# Altium schematic symbol library jlcpcb_2025_04_resistors_extended_1812.schlib: 557 symbols (part 3 of 9)
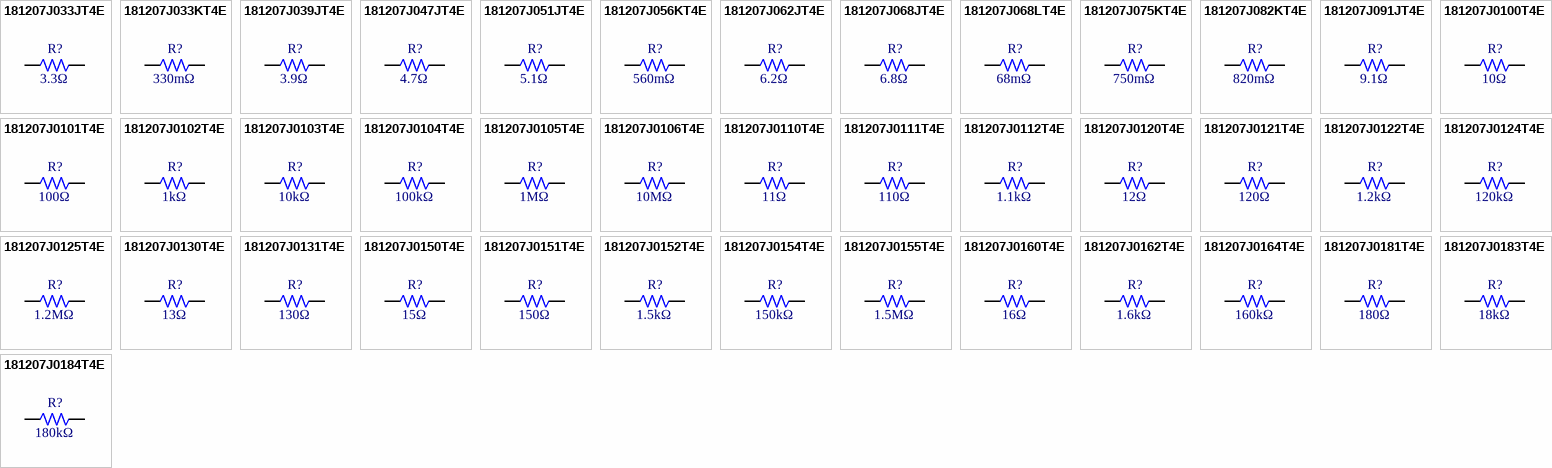
[diagram p15: symbols 181207J033JT4E to 181207J0184T4E]

## 181207J056KT4E
designator R?  Resistance: 560mΩ  (hidden comment: *)
Resistor, 560mΩ, ±5%, 750mW, 200V, ±800ppm/℃, -55℃~+155℃, SMD 1812; Manufacturer: Uniroyal; Manufacturer Part Number: 181207J056KT4E; Supplier 1: LCSC; Supplier Part Number 1: C421980; JLCPCB Part Number: C421980; Power Rating: 750mW; Category: Resistors; Package Size: 1812; JLCPCB Basic Part: Yes; Tolerance: ±5%; Voltage Rating: 200V; Temperature Coefficient: ±800ppm/℃; Temperature Rating: -55℃~+155℃; ComponentLink1Description: Datasheet; ComponentLink1URL: https://wmsc.lcsc.com/wmsc/upload/file/pdf/v2/lcsc/2205312016_UNI-ROYAL-Uniroyal-Elec-181207J056KT4E_C421980.pdf; ComponentLink2Description: JLCPCB Part URL; ComponentLink2URL: https://jlcpcb.com/partdetail/C421980
pins: 1, 2
1 alternate drawing of the same symbol

## 181207J062JT4E
designator R?  Resistance: 6.2Ω  (hidden comment: *)
Resistor, 6.2Ω, ±5%, 750mW, 200V, ±200ppm/℃, -55℃~+155℃, SMD 1812; Manufacturer: Uniroyal; Manufacturer Part Number: 181207J062JT4E; Supplier 1: LCSC; Supplier Part Number 1: C621108; JLCPCB Part Number: C621108; Power Rating: 750mW; Category: Resistors; Package Size: 1812; JLCPCB Basic Part: Yes; Tolerance: ±5%; Voltage Rating: 200V; Temperature Coefficient: ±200ppm/℃; Temperature Rating: -55℃~+155℃; ComponentLink1Description: Datasheet; ComponentLink1URL: https://wmsc.lcsc.com/wmsc/upload/file/pdf/v2/lcsc/2206011100_UNI-ROYAL-Uniroyal-Elec-181207J062JT4E_C621108.pdf; ComponentLink2Description: JLCPCB Part URL; ComponentLink2URL: https://jlcpcb.com/partdetail/C621108
pins: 1, 2
1 alternate drawing of the same symbol

## 181207J068JT4E
designator R?  Resistance: 6.8Ω  (hidden comment: *)
Resistor, 6.8Ω, ±5%, 750mW, 200V, ±200ppm/℃, -55℃~+155℃, SMD 1812; Manufacturer: Uniroyal; Manufacturer Part Number: 181207J068JT4E; Supplier 1: LCSC; Supplier Part Number 1: C621109; JLCPCB Part Number: C621109; Power Rating: 750mW; Category: Resistors; Package Size: 1812; JLCPCB Basic Part: Yes; Tolerance: ±5%; Voltage Rating: 200V; Temperature Coefficient: ±200ppm/℃; Temperature Rating: -55℃~+155℃; ComponentLink1Description: Datasheet; ComponentLink1URL: https://wmsc.lcsc.com/wmsc/upload/file/pdf/v2/lcsc/2206011100_UNI-ROYAL-Uniroyal-Elec-181207J068JT4E_C621109.pdf; ComponentLink2Description: JLCPCB Part URL; ComponentLink2URL: https://jlcpcb.com/partdetail/C621109
pins: 1, 2
1 alternate drawing of the same symbol

## 181207J068LT4E
designator R?  Resistance: 68mΩ  (hidden comment: *)
Resistor, 68mΩ, ±5%, 750mW, 200V, -55℃~+155℃, SMD 1812; Manufacturer: Uniroyal; Manufacturer Part Number: 181207J068LT4E; Supplier 1: LCSC; Supplier Part Number 1: C921024; JLCPCB Part Number: C921024; Power Rating: 750mW; Category: Resistors; Package Size: 1812; JLCPCB Basic Part: Yes; Tolerance: ±5%; Voltage Rating: 200V; Temperature Rating: -55℃~+155℃; ComponentLink1Description: Datasheet; ComponentLink1URL: https://wmsc.lcsc.com/wmsc/upload/file/pdf/v2/lcsc/2304140030_UNI-ROYAL-Uniroyal-Elec-181207J068LT4E_C921024.pdf; ComponentLink2Description: JLCPCB Part URL; ComponentLink2URL: https://jlcpcb.com/partdetail/C921024
pins: 1, 2
1 alternate drawing of the same symbol

## 181207J075KT4E
designator R?  Resistance: 750mΩ  (hidden comment: *)
Resistor, 750mΩ, ±5%, 750mW, 200V, ±800ppm/℃, -55℃~+155℃, SMD 1812; Manufacturer: Uniroyal; Manufacturer Part Number: 181207J075KT4E; Supplier 1: LCSC; Supplier Part Number 1: C421967; JLCPCB Part Number: C421967; Power Rating: 750mW; Category: Resistors; Package Size: 1812; JLCPCB Basic Part: Yes; Tolerance: ±5%; Voltage Rating: 200V; Temperature Coefficient: ±800ppm/℃; Temperature Rating: -55℃~+155℃; ComponentLink1Description: Datasheet; ComponentLink1URL: https://wmsc.lcsc.com/wmsc/upload/file/pdf/v2/lcsc/2205312016_UNI-ROYAL-Uniroyal-Elec-181207J075KT4E_C421967.pdf; ComponentLink2Description: JLCPCB Part URL; ComponentLink2URL: https://jlcpcb.com/partdetail/C421967
pins: 1, 2
1 alternate drawing of the same symbol

## 181207J082KT4E
designator R?  Resistance: 820mΩ  (hidden comment: *)
Resistor, 820mΩ, ±5%, 750mW, 200V, ±800ppm/℃, -55℃~+155℃, SMD 1812; Manufacturer: Uniroyal; Manufacturer Part Number: 181207J082KT4E; Supplier 1: LCSC; Supplier Part Number 1: C421961; JLCPCB Part Number: C421961; Power Rating: 750mW; Category: Resistors; Package Size: 1812; JLCPCB Basic Part: Yes; Tolerance: ±5%; Voltage Rating: 200V; Temperature Coefficient: ±800ppm/℃; Temperature Rating: -55℃~+155℃; ComponentLink1Description: Datasheet; ComponentLink1URL: https://wmsc.lcsc.com/wmsc/upload/file/pdf/v2/lcsc/2205312016_UNI-ROYAL-Uniroyal-Elec-181207J082KT4E_C421961.pdf; ComponentLink2Description: JLCPCB Part URL; ComponentLink2URL: https://jlcpcb.com/partdetail/C421961
pins: 1, 2
1 alternate drawing of the same symbol

## 181207J091JT4E
designator R?  Resistance: 9.1Ω  (hidden comment: *)
Resistor, 9.1Ω, ±5%, 750mW, 200V, ±200ppm/℃, -55℃~+155℃, SMD 1812; Manufacturer: Uniroyal; Manufacturer Part Number: 181207J091JT4E; Supplier 1: LCSC; Supplier Part Number 1: C421956; JLCPCB Part Number: C421956; Power Rating: 750mW; Category: Resistors; Package Size: 1812; JLCPCB Basic Part: Yes; Tolerance: ±5%; Voltage Rating: 200V; Temperature Coefficient: ±200ppm/℃; Temperature Rating: -55℃~+155℃; ComponentLink1Description: Datasheet; ComponentLink1URL: https://wmsc.lcsc.com/wmsc/upload/file/pdf/v2/lcsc/2205312016_UNI-ROYAL-Uniroyal-Elec-181207J091JT4E_C421956.pdf; ComponentLink2Description: JLCPCB Part URL; ComponentLink2URL: https://jlcpcb.com/partdetail/C421956
pins: 1, 2
1 alternate drawing of the same symbol

## 181207J0100T4E
designator R?  Resistance: 10Ω  (hidden comment: *)
Resistor, 10Ω, ±5%, 750mW, 200V, ±200ppm/℃, -55℃~+155℃, SMD 1812; Manufacturer: Uniroyal; Manufacturer Part Number: 181207J0100T4E; Supplier 1: LCSC; Supplier Part Number 1: C66571; JLCPCB Part Number: C66571; Power Rating: 750mW; Category: Resistors; Package Size: 1812; JLCPCB Basic Part: Yes; Tolerance: ±5%; Voltage Rating: 200V; Temperature Coefficient: ±200ppm/℃; Temperature Rating: -55℃~+155℃; ComponentLink1Description: Datasheet; ComponentLink1URL: https://wmsc.lcsc.com/wmsc/upload/file/pdf/v2/lcsc/2205312345_UNI-ROYAL-Uniroyal-Elec-181207J0100T4E_C66571.pdf; ComponentLink2Description: JLCPCB Part URL; ComponentLink2URL: https://jlcpcb.com/partdetail/C66571
pins: 1, 2
1 alternate drawing of the same symbol

## 181207J0101T4E
designator R?  Resistance: 100Ω  (hidden comment: *)
Resistor, 100Ω, ±5%, 750mW, 200V, ±100ppm/℃, -55℃~+155℃, SMD 1812; Manufacturer: Uniroyal; Manufacturer Part Number: 181207J0101T4E; Supplier 1: LCSC; Supplier Part Number 1: C473514; JLCPCB Part Number: C473514; Power Rating: 750mW; Category: Resistors; Package Size: 1812; JLCPCB Basic Part: Yes; Tolerance: ±5%; Voltage Rating: 200V; Temperature Coefficient: ±100ppm/℃; Temperature Rating: -55℃~+155℃; ComponentLink1Description: Datasheet; ComponentLink1URL: https://wmsc.lcsc.com/wmsc/upload/file/pdf/v2/lcsc/2206011100_UNI-ROYAL-Uniroyal-Elec-181207J0101T4E_C473514.pdf; ComponentLink2Description: JLCPCB Part URL; ComponentLink2URL: https://jlcpcb.com/partdetail/C473514
pins: 1, 2
1 alternate drawing of the same symbol

## 181207J0102T4E
designator R?  Resistance: 1kΩ  (hidden comment: *)
Resistor, 1kΩ, ±5%, 750mW, 200V, ±100ppm/℃, -55℃~+155℃, SMD 1812; Manufacturer: Uniroyal; Manufacturer Part Number: 181207J0102T4E; Supplier 1: LCSC; Supplier Part Number 1: C62361; JLCPCB Part Number: C62361; Power Rating: 750mW; Category: Resistors; Package Size: 1812; JLCPCB Basic Part: Yes; Tolerance: ±5%; Voltage Rating: 200V; Temperature Coefficient: ±100ppm/℃; Temperature Rating: -55℃~+155℃; ComponentLink1Description: Datasheet; ComponentLink1URL: https://wmsc.lcsc.com/wmsc/upload/file/pdf/v2/lcsc/2205312345_UNI-ROYAL-Uniroyal-Elec-181207J0102T4E_C62361.pdf; ComponentLink2Description: JLCPCB Part URL; ComponentLink2URL: https://jlcpcb.com/partdetail/C62361
pins: 1, 2
1 alternate drawing of the same symbol

## 181207J0103T4E
designator R?  Resistance: 10kΩ  (hidden comment: *)
Resistor, 10kΩ, ±5%, 750mW, 200V, ±100ppm/℃, -55℃~+155℃, SMD 1812; Manufacturer: Uniroyal; Manufacturer Part Number: 181207J0103T4E; Supplier 1: LCSC; Supplier Part Number 1: C621076; JLCPCB Part Number: C621076; Power Rating: 750mW; Category: Resistors; Package Size: 1812; JLCPCB Basic Part: Yes; Tolerance: ±5%; Voltage Rating: 200V; Temperature Coefficient: ±100ppm/℃; Temperature Rating: -55℃~+155℃; ComponentLink1Description: Datasheet; ComponentLink1URL: https://wmsc.lcsc.com/wmsc/upload/file/pdf/v2/lcsc/2205311830_UNI-ROYAL-Uniroyal-Elec-181207J0103T4E_C621076.pdf; ComponentLink2Description: JLCPCB Part URL; ComponentLink2URL: https://jlcpcb.com/partdetail/C621076
pins: 1, 2
1 alternate drawing of the same symbol

## 181207J0104T4E
designator R?  Resistance: 100kΩ  (hidden comment: *)
Resistor, 100kΩ, ±5%, 750mW, 200V, ±100ppm/℃, -55℃~+155℃, SMD 1812; Manufacturer: Uniroyal; Manufacturer Part Number: 181207J0104T4E; Supplier 1: LCSC; Supplier Part Number 1: C73169; JLCPCB Part Number: C73169; Power Rating: 750mW; Category: Resistors; Package Size: 1812; JLCPCB Basic Part: Yes; Tolerance: ±5%; Voltage Rating: 200V; Temperature Coefficient: ±100ppm/℃; Temperature Rating: -55℃~+155℃; ComponentLink1Description: Datasheet; ComponentLink1URL: https://wmsc.lcsc.com/wmsc/upload/file/pdf/v2/lcsc/2205312345_UNI-ROYAL-Uniroyal-Elec-181207J0104T4E_C73169.pdf; ComponentLink2Description: JLCPCB Part URL; ComponentLink2URL: https://jlcpcb.com/partdetail/C73169
pins: 1, 2
1 alternate drawing of the same symbol

## 181207J0105T4E
designator R?  Resistance: 1MΩ  (hidden comment: *)
Resistor, 1MΩ, ±5%, 750mW, 200V, ±100ppm/℃, -55℃~+155℃, SMD 1812; Manufacturer: Uniroyal; Manufacturer Part Number: 181207J0105T4E; Supplier 1: LCSC; Supplier Part Number 1: C474263; JLCPCB Part Number: C474263; Power Rating: 750mW; Category: Resistors; Package Size: 1812; JLCPCB Basic Part: Yes; Tolerance: ±5%; Voltage Rating: 200V; Temperature Coefficient: ±100ppm/℃; Temperature Rating: -55℃~+155℃; ComponentLink1Description: Datasheet; ComponentLink1URL: https://wmsc.lcsc.com/wmsc/upload/file/pdf/v2/lcsc/2206011100_UNI-ROYAL-Uniroyal-Elec-181207J0105T4E_C474263.pdf; ComponentLink2Description: JLCPCB Part URL; ComponentLink2URL: https://jlcpcb.com/partdetail/C474263
pins: 1, 2
1 alternate drawing of the same symbol

## 181207J0106T4E
designator R?  Resistance: 10MΩ  (hidden comment: *)
Resistor, 10MΩ, ±5%, 750mW, 200V, ±100ppm/℃, -55℃~+155℃, SMD 1812; Manufacturer: Uniroyal; Manufacturer Part Number: 181207J0106T4E; Supplier 1: LCSC; Supplier Part Number 1: C2765509; JLCPCB Part Number: C2765509; Power Rating: 750mW; Category: Resistors; Package Size: 1812; JLCPCB Basic Part: Yes; Tolerance: ±5%; Voltage Rating: 200V; Temperature Coefficient: ±100ppm/℃; Temperature Rating: -55℃~+155℃; ComponentLink1Description: Datasheet; ComponentLink1URL: https://wmsc.lcsc.com/wmsc/upload/file/pdf/v2/lcsc/2206011045_UNI-ROYAL-Uniroyal-Elec-181207J0106T4E_C2765509.pdf; ComponentLink2Description: JLCPCB Part URL; ComponentLink2URL: https://jlcpcb.com/partdetail/C2765509
pins: 1, 2
1 alternate drawing of the same symbol

## 181207J0110T4E
designator R?  Resistance: 11Ω  (hidden comment: *)
Resistor, 11Ω, ±5%, 750mW, 200V, ±100ppm/℃, -55℃~+155℃, SMD 1812; Manufacturer: Uniroyal; Manufacturer Part Number: 181207J0110T4E; Supplier 1: LCSC; Supplier Part Number 1: C422039; JLCPCB Part Number: C422039; Power Rating: 750mW; Category: Resistors; Package Size: 1812; JLCPCB Basic Part: Yes; Tolerance: ±5%; Voltage Rating: 200V; Temperature Coefficient: ±100ppm/℃; Temperature Rating: -55℃~+155℃; ComponentLink1Description: Datasheet; ComponentLink1URL: https://wmsc.lcsc.com/wmsc/upload/file/pdf/v2/lcsc/2205312016_UNI-ROYAL-Uniroyal-Elec-181207J0110T4E_C422039.pdf; ComponentLink2Description: JLCPCB Part URL; ComponentLink2URL: https://jlcpcb.com/partdetail/C422039
pins: 1, 2
1 alternate drawing of the same symbol

## 181207J0111T4E
designator R?  Resistance: 110Ω  (hidden comment: *)
Resistor, 110Ω, ±5%, 750mW, 200V, ±100ppm/℃, -55℃~+155℃, SMD 1812; Manufacturer: Uniroyal; Manufacturer Part Number: 181207J0111T4E; Supplier 1: LCSC; Supplier Part Number 1: C422038; JLCPCB Part Number: C422038; Power Rating: 750mW; Category: Resistors; Package Size: 1812; JLCPCB Basic Part: Yes; Tolerance: ±5%; Voltage Rating: 200V; Temperature Coefficient: ±100ppm/℃; Temperature Rating: -55℃~+155℃; ComponentLink1Description: Datasheet; ComponentLink1URL: https://wmsc.lcsc.com/wmsc/upload/file/pdf/v2/lcsc/2205312016_UNI-ROYAL-Uniroyal-Elec-181207J0111T4E_C422038.pdf; ComponentLink2Description: JLCPCB Part URL; ComponentLink2URL: https://jlcpcb.com/partdetail/C422038
pins: 1, 2
1 alternate drawing of the same symbol

## 181207J0112T4E
designator R?  Resistance: 1.1kΩ  (hidden comment: *)
Resistor, 1.1kΩ, ±5%, 750mW, 200V, ±100ppm/℃, -55℃~+155℃, SMD 1812; Manufacturer: Uniroyal; Manufacturer Part Number: 181207J0112T4E; Supplier 1: LCSC; Supplier Part Number 1: C422037; JLCPCB Part Number: C422037; Power Rating: 750mW; Category: Resistors; Package Size: 1812; JLCPCB Basic Part: Yes; Tolerance: ±5%; Voltage Rating: 200V; Temperature Coefficient: ±100ppm/℃; Temperature Rating: -55℃~+155℃; ComponentLink1Description: Datasheet; ComponentLink1URL: https://wmsc.lcsc.com/wmsc/upload/file/pdf/v2/lcsc/2205312016_UNI-ROYAL-Uniroyal-Elec-181207J0112T4E_C422037.pdf; ComponentLink2Description: JLCPCB Part URL; ComponentLink2URL: https://jlcpcb.com/partdetail/C422037
pins: 1, 2
1 alternate drawing of the same symbol

## 181207J0120T4E
designator R?  Resistance: 12Ω  (hidden comment: *)
Resistor, 12Ω, ±5%, 750mW, 200V, ±100ppm/℃, -55℃~+155℃, SMD 1812; Manufacturer: Uniroyal; Manufacturer Part Number: 181207J0120T4E; Supplier 1: LCSC; Supplier Part Number 1: C621077; JLCPCB Part Number: C621077; Power Rating: 750mW; Category: Resistors; Package Size: 1812; JLCPCB Basic Part: Yes; Tolerance: ±5%; Voltage Rating: 200V; Temperature Coefficient: ±100ppm/℃; Temperature Rating: -55℃~+155℃; ComponentLink1Description: Datasheet; ComponentLink1URL: https://wmsc.lcsc.com/wmsc/upload/file/pdf/v2/lcsc/2205311830_UNI-ROYAL-Uniroyal-Elec-181207J0120T4E_C621077.pdf; ComponentLink2Description: JLCPCB Part URL; ComponentLink2URL: https://jlcpcb.com/partdetail/C621077
pins: 1, 2
1 alternate drawing of the same symbol

## 181207J0121T4E
designator R?  Resistance: 120Ω  (hidden comment: *)
Resistor, 120Ω, ±5%, 750mW, 200V, ±100ppm/℃, -55℃~+155℃, SMD 1812; Manufacturer: Uniroyal; Manufacturer Part Number: 181207J0121T4E; Supplier 1: LCSC; Supplier Part Number 1: C474086; JLCPCB Part Number: C474086; Power Rating: 750mW; Category: Resistors; Package Size: 1812; JLCPCB Basic Part: Yes; Tolerance: ±5%; Voltage Rating: 200V; Temperature Coefficient: ±100ppm/℃; Temperature Rating: -55℃~+155℃; ComponentLink1Description: Datasheet; ComponentLink1URL: https://wmsc.lcsc.com/wmsc/upload/file/pdf/v2/lcsc/2206011100_UNI-ROYAL-Uniroyal-Elec-181207J0121T4E_C474086.pdf; ComponentLink2Description: JLCPCB Part URL; ComponentLink2URL: https://jlcpcb.com/partdetail/C474086
pins: 1, 2
1 alternate drawing of the same symbol

## 181207J0122T4E
designator R?  Resistance: 1.2kΩ  (hidden comment: *)
Resistor, 1.2kΩ, ±5%, 750mW, 200V, ±100ppm/℃, -55℃~+155℃, SMD 1812; Manufacturer: Uniroyal; Manufacturer Part Number: 181207J0122T4E; Supplier 1: LCSC; Supplier Part Number 1: C422035; JLCPCB Part Number: C422035; Power Rating: 750mW; Category: Resistors; Package Size: 1812; JLCPCB Basic Part: Yes; Tolerance: ±5%; Voltage Rating: 200V; Temperature Coefficient: ±100ppm/℃; Temperature Rating: -55℃~+155℃; ComponentLink1Description: Datasheet; ComponentLink1URL: https://wmsc.lcsc.com/wmsc/upload/file/pdf/v2/lcsc/2205312016_UNI-ROYAL-Uniroyal-Elec-181207J0122T4E_C422035.pdf; ComponentLink2Description: JLCPCB Part URL; ComponentLink2URL: https://jlcpcb.com/partdetail/C422035
pins: 1, 2
1 alternate drawing of the same symbol

## 181207J0124T4E
designator R?  Resistance: 120kΩ  (hidden comment: *)
Resistor, 120kΩ, ±5%, 750mW, 200V, ±100ppm/℃, -55℃~+155℃, SMD 1812; Manufacturer: Uniroyal; Manufacturer Part Number: 181207J0124T4E; Supplier 1: LCSC; Supplier Part Number 1: C422034; JLCPCB Part Number: C422034; Power Rating: 750mW; Category: Resistors; Package Size: 1812; JLCPCB Basic Part: Yes; Tolerance: ±5%; Voltage Rating: 200V; Temperature Coefficient: ±100ppm/℃; Temperature Rating: -55℃~+155℃; ComponentLink1Description: Datasheet; ComponentLink1URL: https://wmsc.lcsc.com/wmsc/upload/file/pdf/v2/lcsc/2205312016_UNI-ROYAL-Uniroyal-Elec-181207J0124T4E_C422034.pdf; ComponentLink2Description: JLCPCB Part URL; ComponentLink2URL: https://jlcpcb.com/partdetail/C422034
pins: 1, 2
1 alternate drawing of the same symbol

## 181207J0125T4E
designator R?  Resistance: 1.2MΩ  (hidden comment: *)
Resistor, 1.2MΩ, ±5%, 750mW, 200V, ±100ppm/℃, -55℃~+155℃, SMD 1812; Manufacturer: Uniroyal; Manufacturer Part Number: 181207J0125T4E; Supplier 1: LCSC; Supplier Part Number 1: C621075; JLCPCB Part Number: C621075; Power Rating: 750mW; Category: Resistors; Package Size: 1812; JLCPCB Basic Part: Yes; Tolerance: ±5%; Voltage Rating: 200V; Temperature Coefficient: ±100ppm/℃; Temperature Rating: -55℃~+155℃; ComponentLink1Description: Datasheet; ComponentLink1URL: https://wmsc.lcsc.com/wmsc/upload/file/pdf/v2/lcsc/2205311830_UNI-ROYAL-Uniroyal-Elec-181207J0125T4E_C621075.pdf; ComponentLink2Description: JLCPCB Part URL; ComponentLink2URL: https://jlcpcb.com/partdetail/C621075
pins: 1, 2
1 alternate drawing of the same symbol

## 181207J0130T4E
designator R?  Resistance: 13Ω  (hidden comment: *)
Resistor, 13Ω, ±5%, 750mW, 200V, ±100ppm/℃, -55℃~+155℃, SMD 1812; Manufacturer: Uniroyal; Manufacturer Part Number: 181207J0130T4E; Supplier 1: LCSC; Supplier Part Number 1: C422032; JLCPCB Part Number: C422032; Power Rating: 750mW; Category: Resistors; Package Size: 1812; JLCPCB Basic Part: Yes; Tolerance: ±5%; Voltage Rating: 200V; Temperature Coefficient: ±100ppm/℃; Temperature Rating: -55℃~+155℃; ComponentLink1Description: Datasheet; ComponentLink1URL: https://wmsc.lcsc.com/wmsc/upload/file/pdf/v2/lcsc/2205312016_UNI-ROYAL-Uniroyal-Elec-181207J0130T4E_C422032.pdf; ComponentLink2Description: JLCPCB Part URL; ComponentLink2URL: https://jlcpcb.com/partdetail/C422032
pins: 1, 2
1 alternate drawing of the same symbol

## 181207J0131T4E
designator R?  Resistance: 130Ω  (hidden comment: *)
Resistor, 130Ω, ±5%, 750mW, 200V, ±100ppm/℃, -55℃~+155℃, SMD 1812; Manufacturer: Uniroyal; Manufacturer Part Number: 181207J0131T4E; Supplier 1: LCSC; Supplier Part Number 1: C422031; JLCPCB Part Number: C422031; Power Rating: 750mW; Category: Resistors; Package Size: 1812; JLCPCB Basic Part: Yes; Tolerance: ±5%; Voltage Rating: 200V; Temperature Coefficient: ±100ppm/℃; Temperature Rating: -55℃~+155℃; ComponentLink1Description: Datasheet; ComponentLink1URL: https://wmsc.lcsc.com/wmsc/upload/file/pdf/v2/lcsc/2205312016_UNI-ROYAL-Uniroyal-Elec-181207J0131T4E_C422031.pdf; ComponentLink2Description: JLCPCB Part URL; ComponentLink2URL: https://jlcpcb.com/partdetail/C422031
pins: 1, 2
1 alternate drawing of the same symbol

## 181207J0150T4E
designator R?  Resistance: 15Ω  (hidden comment: *)
Resistor, 15Ω, ±5%, 750mW, 200V, ±100ppm/℃, -55℃~+155℃, SMD 1812; Manufacturer: Uniroyal; Manufacturer Part Number: 181207J0150T4E; Supplier 1: LCSC; Supplier Part Number 1: C474146; JLCPCB Part Number: C474146; Power Rating: 750mW; Category: Resistors; Package Size: 1812; JLCPCB Basic Part: Yes; Tolerance: ±5%; Voltage Rating: 200V; Temperature Coefficient: ±100ppm/℃; Temperature Rating: -55℃~+155℃; ComponentLink1Description: Datasheet; ComponentLink1URL: https://wmsc.lcsc.com/wmsc/upload/file/pdf/v2/lcsc/2206011100_UNI-ROYAL-Uniroyal-Elec-181207J0150T4E_C474146.pdf; ComponentLink2Description: JLCPCB Part URL; ComponentLink2URL: https://jlcpcb.com/partdetail/C474146
pins: 1, 2
1 alternate drawing of the same symbol

## 181207J0151T4E
designator R?  Resistance: 150Ω  (hidden comment: *)
Resistor, 150Ω, ±5%, 750mW, 200V, ±100ppm/℃, -55℃~+155℃, SMD 1812; Manufacturer: Uniroyal; Manufacturer Part Number: 181207J0151T4E; Supplier 1: LCSC; Supplier Part Number 1: C422029; JLCPCB Part Number: C422029; Power Rating: 750mW; Category: Resistors; Package Size: 1812; JLCPCB Basic Part: Yes; Tolerance: ±5%; Voltage Rating: 200V; Temperature Coefficient: ±100ppm/℃; Temperature Rating: -55℃~+155℃; ComponentLink1Description: Datasheet; ComponentLink1URL: https://wmsc.lcsc.com/wmsc/upload/file/pdf/v2/lcsc/2205312016_UNI-ROYAL-Uniroyal-Elec-181207J0151T4E_C422029.pdf; ComponentLink2Description: JLCPCB Part URL; ComponentLink2URL: https://jlcpcb.com/partdetail/C422029
pins: 1, 2
1 alternate drawing of the same symbol

## 181207J0152T4E
designator R?  Resistance: 1.5kΩ  (hidden comment: *)
Resistor, 1.5kΩ, ±5%, 750mW, 200V, ±100ppm/℃, -55℃~+155℃, SMD 1812; Manufacturer: Uniroyal; Manufacturer Part Number: 181207J0152T4E; Supplier 1: LCSC; Supplier Part Number 1: C422028; JLCPCB Part Number: C422028; Power Rating: 750mW; Category: Resistors; Package Size: 1812; JLCPCB Basic Part: Yes; Tolerance: ±5%; Voltage Rating: 200V; Temperature Coefficient: ±100ppm/℃; Temperature Rating: -55℃~+155℃; ComponentLink1Description: Datasheet; ComponentLink1URL: https://wmsc.lcsc.com/wmsc/upload/file/pdf/v2/lcsc/2205312016_UNI-ROYAL-Uniroyal-Elec-181207J0152T4E_C422028.pdf; ComponentLink2Description: JLCPCB Part URL; ComponentLink2URL: https://jlcpcb.com/partdetail/C422028
pins: 1, 2
1 alternate drawing of the same symbol

## 181207J0154T4E
designator R?  Resistance: 150kΩ  (hidden comment: *)
Resistor, 150kΩ, ±5%, 750mW, 200V, ±100ppm/℃, -55℃~+155℃, SMD 1812; Manufacturer: Uniroyal; Manufacturer Part Number: 181207J0154T4E; Supplier 1: LCSC; Supplier Part Number 1: C422027; JLCPCB Part Number: C422027; Power Rating: 750mW; Category: Resistors; Package Size: 1812; JLCPCB Basic Part: Yes; Tolerance: ±5%; Voltage Rating: 200V; Temperature Coefficient: ±100ppm/℃; Temperature Rating: -55℃~+155℃; ComponentLink1Description: Datasheet; ComponentLink1URL: https://wmsc.lcsc.com/wmsc/upload/file/pdf/v2/lcsc/2205312016_UNI-ROYAL-Uniroyal-Elec-181207J0154T4E_C422027.pdf; ComponentLink2Description: JLCPCB Part URL; ComponentLink2URL: https://jlcpcb.com/partdetail/C422027
pins: 1, 2
1 alternate drawing of the same symbol

## 181207J0155T4E
designator R?  Resistance: 1.5MΩ  (hidden comment: *)
Resistor, 1.5MΩ, ±5%, 750mW, 200V, ±100ppm/℃, -55℃~+155℃, SMD 1812; Manufacturer: Uniroyal; Manufacturer Part Number: 181207J0155T4E; Supplier 1: LCSC; Supplier Part Number 1: C422026; JLCPCB Part Number: C422026; Power Rating: 750mW; Category: Resistors; Package Size: 1812; JLCPCB Basic Part: Yes; Tolerance: ±5%; Voltage Rating: 200V; Temperature Coefficient: ±100ppm/℃; Temperature Rating: -55℃~+155℃; ComponentLink1Description: Datasheet; ComponentLink1URL: https://wmsc.lcsc.com/wmsc/upload/file/pdf/v2/lcsc/2205312016_UNI-ROYAL-Uniroyal-Elec-181207J0155T4E_C422026.pdf; ComponentLink2Description: JLCPCB Part URL; ComponentLink2URL: https://jlcpcb.com/partdetail/C422026
pins: 1, 2
1 alternate drawing of the same symbol

## 181207J0160T4E
designator R?  Resistance: 16Ω  (hidden comment: *)
Resistor, 16Ω, ±5%, 750mW, 200V, ±100ppm/℃, -55℃~+155℃, SMD 1812; Manufacturer: Uniroyal; Manufacturer Part Number: 181207J0160T4E; Supplier 1: LCSC; Supplier Part Number 1: C422024; JLCPCB Part Number: C422024; Power Rating: 750mW; Category: Resistors; Package Size: 1812; JLCPCB Basic Part: Yes; Tolerance: ±5%; Voltage Rating: 200V; Temperature Coefficient: ±100ppm/℃; Temperature Rating: -55℃~+155℃; ComponentLink1Description: Datasheet; ComponentLink1URL: https://wmsc.lcsc.com/wmsc/upload/file/pdf/v2/lcsc/2205312016_UNI-ROYAL-Uniroyal-Elec-181207J0160T4E_C422024.pdf; ComponentLink2Description: JLCPCB Part URL; ComponentLink2URL: https://jlcpcb.com/partdetail/C422024
pins: 1, 2
1 alternate drawing of the same symbol

## 181207J0162T4E
designator R?  Resistance: 1.6kΩ  (hidden comment: *)
Resistor, 1.6kΩ, ±5%, 750mW, 200V, ±100ppm/℃, -55℃~+155℃, SMD 1812; Manufacturer: Uniroyal; Manufacturer Part Number: 181207J0162T4E; Supplier 1: LCSC; Supplier Part Number 1: C422023; JLCPCB Part Number: C422023; Power Rating: 750mW; Category: Resistors; Package Size: 1812; JLCPCB Basic Part: Yes; Tolerance: ±5%; Voltage Rating: 200V; Temperature Coefficient: ±100ppm/℃; Temperature Rating: -55℃~+155℃; ComponentLink1Description: Datasheet; ComponentLink1URL: https://wmsc.lcsc.com/wmsc/upload/file/pdf/v2/lcsc/2205312016_UNI-ROYAL-Uniroyal-Elec-181207J0162T4E_C422023.pdf; ComponentLink2Description: JLCPCB Part URL; ComponentLink2URL: https://jlcpcb.com/partdetail/C422023
pins: 1, 2
1 alternate drawing of the same symbol

## 181207J0164T4E
designator R?  Resistance: 160kΩ  (hidden comment: *)
Resistor, 160kΩ, ±5%, 750mW, 200V, ±100ppm/℃, -55℃~+155℃, SMD 1812; Manufacturer: Uniroyal; Manufacturer Part Number: 181207J0164T4E; Supplier 1: LCSC; Supplier Part Number 1: C422022; JLCPCB Part Number: C422022; Power Rating: 750mW; Category: Resistors; Package Size: 1812; JLCPCB Basic Part: Yes; Tolerance: ±5%; Voltage Rating: 200V; Temperature Coefficient: ±100ppm/℃; Temperature Rating: -55℃~+155℃; ComponentLink1Description: Datasheet; ComponentLink1URL: https://wmsc.lcsc.com/wmsc/upload/file/pdf/v2/lcsc/2205312016_UNI-ROYAL-Uniroyal-Elec-181207J0164T4E_C422022.pdf; ComponentLink2Description: JLCPCB Part URL; ComponentLink2URL: https://jlcpcb.com/partdetail/C422022
pins: 1, 2
1 alternate drawing of the same symbol

## 181207J0181T4E
designator R?  Resistance: 180Ω  (hidden comment: *)
Resistor, 180Ω, ±5%, 750mW, 200V, ±100ppm/℃, -55℃~+155℃, SMD 1812; Manufacturer: Uniroyal; Manufacturer Part Number: 181207J0181T4E; Supplier 1: LCSC; Supplier Part Number 1: C422020; JLCPCB Part Number: C422020; Power Rating: 750mW; Category: Resistors; Package Size: 1812; JLCPCB Basic Part: Yes; Tolerance: ±5%; Voltage Rating: 200V; Temperature Coefficient: ±100ppm/℃; Temperature Rating: -55℃~+155℃; ComponentLink1Description: Datasheet; ComponentLink1URL: https://wmsc.lcsc.com/wmsc/upload/file/pdf/v2/lcsc/2205312016_UNI-ROYAL-Uniroyal-Elec-181207J0181T4E_C422020.pdf; ComponentLink2Description: JLCPCB Part URL; ComponentLink2URL: https://jlcpcb.com/partdetail/C422020
pins: 1, 2
1 alternate drawing of the same symbol

## 181207J0183T4E
designator R?  Resistance: 18kΩ  (hidden comment: *)
Resistor, 18kΩ, ±5%, 750mW, 200V, ±100ppm/℃, -55℃~+155℃, SMD 1812; Manufacturer: Uniroyal; Manufacturer Part Number: 181207J0183T4E; Supplier 1: LCSC; Supplier Part Number 1: C422019; JLCPCB Part Number: C422019; Power Rating: 750mW; Category: Resistors; Package Size: 1812; JLCPCB Basic Part: Yes; Tolerance: ±5%; Voltage Rating: 200V; Temperature Coefficient: ±100ppm/℃; Temperature Rating: -55℃~+155℃; ComponentLink1Description: Datasheet; ComponentLink1URL: https://wmsc.lcsc.com/wmsc/upload/file/pdf/v2/lcsc/2205312016_UNI-ROYAL-Uniroyal-Elec-181207J0183T4E_C422019.pdf; ComponentLink2Description: JLCPCB Part URL; ComponentLink2URL: https://jlcpcb.com/partdetail/C422019
pins: 1, 2
1 alternate drawing of the same symbol

## 181207J0184T4E
designator R?  Resistance: 180kΩ  (hidden comment: *)
Resistor, 180kΩ, ±5%, 750mW, 200V, ±100ppm/℃, -55℃~+155℃, SMD 1812; Manufacturer: Uniroyal; Manufacturer Part Number: 181207J0184T4E; Supplier 1: LCSC; Supplier Part Number 1: C621078; JLCPCB Part Number: C621078; Power Rating: 750mW; Category: Resistors; Package Size: 1812; JLCPCB Basic Part: Yes; Tolerance: ±5%; Voltage Rating: 200V; Temperature Coefficient: ±100ppm/℃; Temperature Rating: -55℃~+155℃; ComponentLink1Description: Datasheet; ComponentLink1URL: https://wmsc.lcsc.com/wmsc/upload/file/pdf/v2/lcsc/2205311830_UNI-ROYAL-Uniroyal-Elec-181207J0184T4E_C621078.pdf; ComponentLink2Description: JLCPCB Part URL; ComponentLink2URL: https://jlcpcb.com/partdetail/C621078
pins: 1, 2
1 alternate drawing of the same symbol

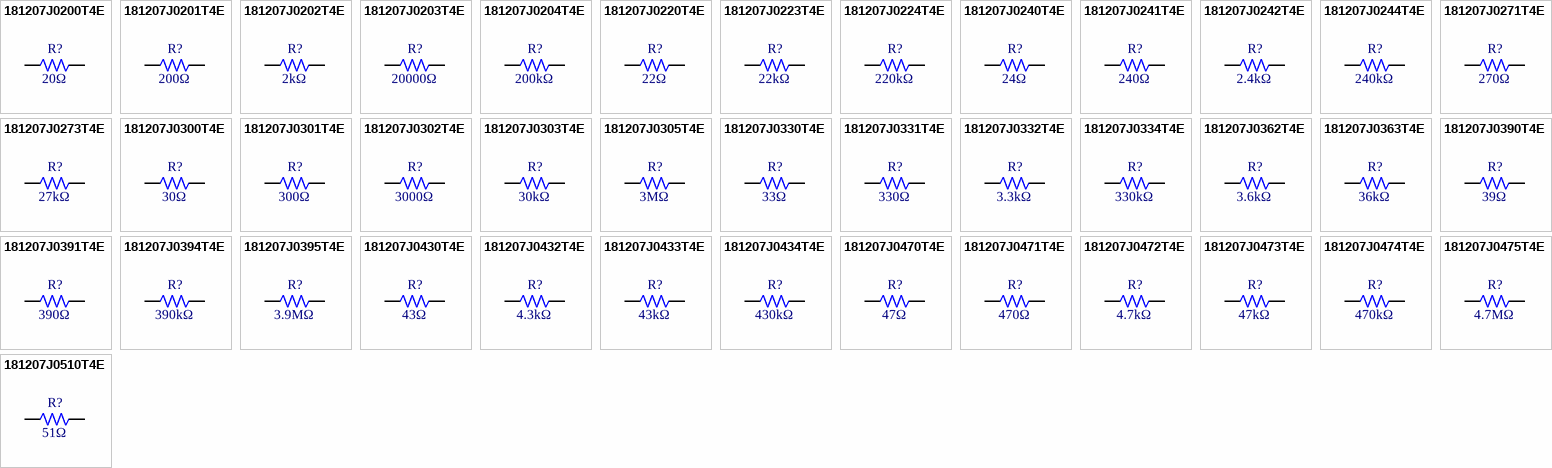
[diagram p4: symbols 181207J0200T4E to 181207J0510T4E]

## 181207J0200T4E
designator R?  Resistance: 20Ω  (hidden comment: *)
Resistor, 20Ω, ±5%, 750mW, 200V, ±100ppm/℃, -55℃~+155℃, SMD 1812; Manufacturer: Uniroyal; Manufacturer Part Number: 181207J0200T4E; Supplier 1: LCSC; Supplier Part Number 1: C621082; JLCPCB Part Number: C621082; Power Rating: 750mW; Category: Resistors; Package Size: 1812; JLCPCB Basic Part: Yes; Tolerance: ±5%; Voltage Rating: 200V; Temperature Coefficient: ±100ppm/℃; Temperature Rating: -55℃~+155℃; ComponentLink1Description: Datasheet; ComponentLink1URL: https://wmsc.lcsc.com/wmsc/upload/file/pdf/v2/lcsc/2205311830_UNI-ROYAL-Uniroyal-Elec-181207J0200T4E_C621082.pdf; ComponentLink2Description: JLCPCB Part URL; ComponentLink2URL: https://jlcpcb.com/partdetail/C621082
pins: 1, 2
1 alternate drawing of the same symbol

## 181207J0201T4E
designator R?  Resistance: 200Ω  (hidden comment: *)
Resistor, 200Ω, ±5%, 750mW, 200V, ±100ppm/℃, -55℃~+155℃, SMD 1812; Manufacturer: Uniroyal; Manufacturer Part Number: 181207J0201T4E; Supplier 1: LCSC; Supplier Part Number 1: C621081; JLCPCB Part Number: C621081; Power Rating: 750mW; Category: Resistors; Package Size: 1812; JLCPCB Basic Part: Yes; Tolerance: ±5%; Voltage Rating: 200V; Temperature Coefficient: ±100ppm/℃; Temperature Rating: -55℃~+155℃; ComponentLink1Description: Datasheet; ComponentLink1URL: https://wmsc.lcsc.com/wmsc/upload/file/pdf/v2/lcsc/2205311830_UNI-ROYAL-Uniroyal-Elec-181207J0201T4E_C621081.pdf; ComponentLink2Description: JLCPCB Part URL; ComponentLink2URL: https://jlcpcb.com/partdetail/C621081
pins: 1, 2
1 alternate drawing of the same symbol

## 181207J0202T4E
designator R?  Resistance: 2kΩ  (hidden comment: *)
Resistor, 2kΩ, ±5%, 750mW, 200V, ±100ppm/℃, -55℃~+155℃, SMD 1812; Manufacturer: Uniroyal; Manufacturer Part Number: 181207J0202T4E; Supplier 1: LCSC; Supplier Part Number 1: C621089; JLCPCB Part Number: C621089; Power Rating: 750mW; Category: Resistors; Package Size: 1812; JLCPCB Basic Part: Yes; Tolerance: ±5%; Voltage Rating: 200V; Temperature Coefficient: ±100ppm/℃; Temperature Rating: -55℃~+155℃; ComponentLink1Description: Datasheet; ComponentLink1URL: https://wmsc.lcsc.com/wmsc/upload/file/pdf/v2/lcsc/2206011100_UNI-ROYAL-Uniroyal-Elec-181207J0202T4E_C621089.pdf; ComponentLink2Description: JLCPCB Part URL; ComponentLink2URL: https://jlcpcb.com/partdetail/C621089
pins: 1, 2
1 alternate drawing of the same symbol

## 181207J0203T4E
designator R?  Resistance: 20000Ω  (hidden comment: *)
Resistor, 20000Ω, ±5%, 750mW, 200V, ±100ppm/℃, -55℃~+155℃, SMD 1812; Manufacturer: Uniroyal; Manufacturer Part Number: 181207J0203T4E; Supplier 1: LCSC; Supplier Part Number 1: C422017; JLCPCB Part Number: C422017; Power Rating: 750mW; Category: Resistors; Package Size: 1812; JLCPCB Basic Part: Yes; Tolerance: ±5%; Voltage Rating: 200V; Temperature Coefficient: ±100ppm/℃; Temperature Rating: -55℃~+155℃; ComponentLink1Description: Datasheet; ComponentLink1URL: https://wmsc.lcsc.com/wmsc/upload/file/pdf/v2/lcsc/2304140030_UNI-ROYAL-Uniroyal-Elec-181207J0203T4E_C422017.pdf; ComponentLink2Description: JLCPCB Part URL; ComponentLink2URL: https://jlcpcb.com/partdetail/C422017
pins: 1, 2
1 alternate drawing of the same symbol

## 181207J0204T4E
designator R?  Resistance: 200kΩ  (hidden comment: *)
Resistor, 200kΩ, ±5%, 750mW, 200V, ±100ppm/℃, -55℃~+155℃, SMD 1812; Manufacturer: Uniroyal; Manufacturer Part Number: 181207J0204T4E; Supplier 1: LCSC; Supplier Part Number 1: C422016; JLCPCB Part Number: C422016; Power Rating: 750mW; Category: Resistors; Package Size: 1812; JLCPCB Basic Part: Yes; Tolerance: ±5%; Voltage Rating: 200V; Temperature Coefficient: ±100ppm/℃; Temperature Rating: -55℃~+155℃; ComponentLink1Description: Datasheet; ComponentLink1URL: https://wmsc.lcsc.com/wmsc/upload/file/pdf/v2/lcsc/2205312016_UNI-ROYAL-Uniroyal-Elec-181207J0204T4E_C422016.pdf; ComponentLink2Description: JLCPCB Part URL; ComponentLink2URL: https://jlcpcb.com/partdetail/C422016
pins: 1, 2
1 alternate drawing of the same symbol

## 181207J0220T4E
designator R?  Resistance: 22Ω  (hidden comment: *)
Resistor, 22Ω, ±5%, 750mW, 200V, ±100ppm/℃, -55℃~+155℃, SMD 1812; Manufacturer: Uniroyal; Manufacturer Part Number: 181207J0220T4E; Supplier 1: LCSC; Supplier Part Number 1: C621084; JLCPCB Part Number: C621084; Power Rating: 750mW; Category: Resistors; Package Size: 1812; JLCPCB Basic Part: Yes; Tolerance: ±5%; Voltage Rating: 200V; Temperature Coefficient: ±100ppm/℃; Temperature Rating: -55℃~+155℃; ComponentLink1Description: Datasheet; ComponentLink1URL: https://wmsc.lcsc.com/wmsc/upload/file/pdf/v2/lcsc/2206011100_UNI-ROYAL-Uniroyal-Elec-181207J0220T4E_C621084.pdf; ComponentLink2Description: JLCPCB Part URL; ComponentLink2URL: https://jlcpcb.com/partdetail/C621084
pins: 1, 2
1 alternate drawing of the same symbol

## 181207J0223T4E
designator R?  Resistance: 22kΩ  (hidden comment: *)
Resistor, 22kΩ, ±5%, 750mW, 200V, ±100ppm/℃, -55℃~+155℃, SMD 1812; Manufacturer: Uniroyal; Manufacturer Part Number: 181207J0223T4E; Supplier 1: LCSC; Supplier Part Number 1: C422014; JLCPCB Part Number: C422014; Power Rating: 750mW; Category: Resistors; Package Size: 1812; JLCPCB Basic Part: Yes; Tolerance: ±5%; Voltage Rating: 200V; Temperature Coefficient: ±100ppm/℃; Temperature Rating: -55℃~+155℃; ComponentLink1Description: Datasheet; ComponentLink1URL: https://wmsc.lcsc.com/wmsc/upload/file/pdf/v2/lcsc/2205312016_UNI-ROYAL-Uniroyal-Elec-181207J0223T4E_C422014.pdf; ComponentLink2Description: JLCPCB Part URL; ComponentLink2URL: https://jlcpcb.com/partdetail/C422014
pins: 1, 2
1 alternate drawing of the same symbol

## 181207J0224T4E
designator R?  Resistance: 220kΩ  (hidden comment: *)
Resistor, 220kΩ, ±5%, 750mW, 200V, ±100ppm/℃, -55℃~+155℃, SMD 1812; Manufacturer: Uniroyal; Manufacturer Part Number: 181207J0224T4E; Supplier 1: LCSC; Supplier Part Number 1: C65310; JLCPCB Part Number: C65310; Power Rating: 750mW; Category: Resistors; Package Size: 1812; JLCPCB Basic Part: Yes; Tolerance: ±5%; Voltage Rating: 200V; Temperature Coefficient: ±100ppm/℃; Temperature Rating: -55℃~+155℃; ComponentLink1Description: Datasheet; ComponentLink1URL: https://wmsc.lcsc.com/wmsc/upload/file/pdf/v2/lcsc/2205312345_UNI-ROYAL-Uniroyal-Elec-181207J0224T4E_C65310.pdf; ComponentLink2Description: JLCPCB Part URL; ComponentLink2URL: https://jlcpcb.com/partdetail/C65310
pins: 1, 2
1 alternate drawing of the same symbol

## 181207J0240T4E
designator R?  Resistance: 24Ω  (hidden comment: *)
Resistor, 24Ω, ±5%, 750mW, 200V, ±100ppm/℃, -55℃~+155℃, SMD 1812; Manufacturer: Uniroyal; Manufacturer Part Number: 181207J0240T4E; Supplier 1: LCSC; Supplier Part Number 1: C621086; JLCPCB Part Number: C621086; Power Rating: 750mW; Category: Resistors; Package Size: 1812; JLCPCB Basic Part: Yes; Tolerance: ±5%; Voltage Rating: 200V; Temperature Coefficient: ±100ppm/℃; Temperature Rating: -55℃~+155℃; ComponentLink1Description: Datasheet; ComponentLink1URL: https://wmsc.lcsc.com/wmsc/upload/file/pdf/v2/lcsc/2206011100_UNI-ROYAL-Uniroyal-Elec-181207J0240T4E_C621086.pdf; ComponentLink2Description: JLCPCB Part URL; ComponentLink2URL: https://jlcpcb.com/partdetail/C621086
pins: 1, 2
1 alternate drawing of the same symbol

## 181207J0241T4E
designator R?  Resistance: 240Ω  (hidden comment: *)
Resistor, 240Ω, ±5%, 750mW, 200V, ±100ppm/℃, -55℃~+155℃, SMD 1812; Manufacturer: Uniroyal; Manufacturer Part Number: 181207J0241T4E; Supplier 1: LCSC; Supplier Part Number 1: C621085; JLCPCB Part Number: C621085; Power Rating: 750mW; Category: Resistors; Package Size: 1812; JLCPCB Basic Part: Yes; Tolerance: ±5%; Voltage Rating: 200V; Temperature Coefficient: ±100ppm/℃; Temperature Rating: -55℃~+155℃; ComponentLink1Description: Datasheet; ComponentLink1URL: https://wmsc.lcsc.com/wmsc/upload/file/pdf/v2/lcsc/2206011100_UNI-ROYAL-Uniroyal-Elec-181207J0241T4E_C621085.pdf; ComponentLink2Description: JLCPCB Part URL; ComponentLink2URL: https://jlcpcb.com/partdetail/C621085
pins: 1, 2
1 alternate drawing of the same symbol

## 181207J0242T4E
designator R?  Resistance: 2.4kΩ  (hidden comment: *)
Resistor, 2.4kΩ, ±5%, 750mW, 200V, ±100ppm/℃, -55℃~+155℃, SMD 1812; Manufacturer: Uniroyal; Manufacturer Part Number: 181207J0242T4E; Supplier 1: LCSC; Supplier Part Number 1: C474240; JLCPCB Part Number: C474240; Power Rating: 750mW; Category: Resistors; Package Size: 1812; JLCPCB Basic Part: Yes; Tolerance: ±5%; Voltage Rating: 200V; Temperature Coefficient: ±100ppm/℃; Temperature Rating: -55℃~+155℃; ComponentLink1Description: Datasheet; ComponentLink1URL: https://wmsc.lcsc.com/wmsc/upload/file/pdf/v2/lcsc/2206011100_UNI-ROYAL-Uniroyal-Elec-181207J0242T4E_C474240.pdf; ComponentLink2Description: JLCPCB Part URL; ComponentLink2URL: https://jlcpcb.com/partdetail/C474240
pins: 1, 2
1 alternate drawing of the same symbol

## 181207J0244T4E
designator R?  Resistance: 240kΩ  (hidden comment: *)
Resistor, 240kΩ, ±5%, 750mW, 200V, ±100ppm/℃, -55℃~+155℃, SMD 1812; Manufacturer: Uniroyal; Manufacturer Part Number: 181207J0244T4E; Supplier 1: LCSC; Supplier Part Number 1: C422012; JLCPCB Part Number: C422012; Power Rating: 750mW; Category: Resistors; Package Size: 1812; JLCPCB Basic Part: Yes; Tolerance: ±5%; Voltage Rating: 200V; Temperature Coefficient: ±100ppm/℃; Temperature Rating: -55℃~+155℃; ComponentLink1Description: Datasheet; ComponentLink1URL: https://wmsc.lcsc.com/wmsc/upload/file/pdf/v2/lcsc/2205312016_UNI-ROYAL-Uniroyal-Elec-181207J0244T4E_C422012.pdf; ComponentLink2Description: JLCPCB Part URL; ComponentLink2URL: https://jlcpcb.com/partdetail/C422012
pins: 1, 2
1 alternate drawing of the same symbol

## 181207J0271T4E
designator R?  Resistance: 270Ω  (hidden comment: *)
Resistor, 270Ω, ±5%, 750mW, 200V, ±100ppm/℃, -55℃~+155℃, SMD 1812; Manufacturer: Uniroyal; Manufacturer Part Number: 181207J0271T4E; Supplier 1: LCSC; Supplier Part Number 1: C621088; JLCPCB Part Number: C621088; Power Rating: 750mW; Category: Resistors; Package Size: 1812; JLCPCB Basic Part: Yes; Tolerance: ±5%; Voltage Rating: 200V; Temperature Coefficient: ±100ppm/℃; Temperature Rating: -55℃~+155℃; ComponentLink1Description: Datasheet; ComponentLink1URL: https://wmsc.lcsc.com/wmsc/upload/file/pdf/v2/lcsc/2206011100_UNI-ROYAL-Uniroyal-Elec-181207J0271T4E_C621088.pdf; ComponentLink2Description: JLCPCB Part URL; ComponentLink2URL: https://jlcpcb.com/partdetail/C621088
pins: 1, 2
1 alternate drawing of the same symbol

## 181207J0273T4E
designator R?  Resistance: 27kΩ  (hidden comment: *)
Resistor, 27kΩ, ±5%, 750mW, 200V, ±100ppm/℃, -55℃~+155℃, SMD 1812; Manufacturer: Uniroyal; Manufacturer Part Number: 181207J0273T4E; Supplier 1: LCSC; Supplier Part Number 1: C422007; JLCPCB Part Number: C422007; Power Rating: 750mW; Category: Resistors; Package Size: 1812; JLCPCB Basic Part: Yes; Tolerance: ±5%; Voltage Rating: 200V; Temperature Coefficient: ±100ppm/℃; Temperature Rating: -55℃~+155℃; ComponentLink1Description: Datasheet; ComponentLink1URL: https://wmsc.lcsc.com/wmsc/upload/file/pdf/v2/lcsc/2205312016_UNI-ROYAL-Uniroyal-Elec-181207J0273T4E_C422007.pdf; ComponentLink2Description: JLCPCB Part URL; ComponentLink2URL: https://jlcpcb.com/partdetail/C422007
pins: 1, 2
1 alternate drawing of the same symbol

## 181207J0300T4E
designator R?  Resistance: 30Ω  (hidden comment: *)
Resistor, 30Ω, ±5%, 750mW, 200V, ±100ppm/℃, -55℃~+155℃, SMD 1812; Manufacturer: Uniroyal; Manufacturer Part Number: 181207J0300T4E; Supplier 1: LCSC; Supplier Part Number 1: C422006; JLCPCB Part Number: C422006; Power Rating: 750mW; Category: Resistors; Package Size: 1812; JLCPCB Basic Part: Yes; Tolerance: ±5%; Voltage Rating: 200V; Temperature Coefficient: ±100ppm/℃; Temperature Rating: -55℃~+155℃; ComponentLink1Description: Datasheet; ComponentLink1URL: https://wmsc.lcsc.com/wmsc/upload/file/pdf/v2/lcsc/2304140030_UNI-ROYAL-Uniroyal-Elec-181207J0300T4E_C422006.pdf; ComponentLink2Description: JLCPCB Part URL; ComponentLink2URL: https://jlcpcb.com/partdetail/C422006
pins: 1, 2
1 alternate drawing of the same symbol

## 181207J0301T4E
designator R?  Resistance: 300Ω  (hidden comment: *)
Resistor, 300Ω, ±5%, 750mW, 200V, ±100ppm/℃, -55℃~+155℃, SMD 1812; Manufacturer: Uniroyal; Manufacturer Part Number: 181207J0301T4E; Supplier 1: LCSC; Supplier Part Number 1: C621092; JLCPCB Part Number: C621092; Power Rating: 750mW; Category: Resistors; Package Size: 1812; JLCPCB Basic Part: Yes; Tolerance: ±5%; Voltage Rating: 200V; Temperature Coefficient: ±100ppm/℃; Temperature Rating: -55℃~+155℃; ComponentLink1Description: Datasheet; ComponentLink1URL: https://wmsc.lcsc.com/wmsc/upload/file/pdf/v2/lcsc/2304140030_UNI-ROYAL-Uniroyal-Elec-181207J0301T4E_C621092.pdf; ComponentLink2Description: JLCPCB Part URL; ComponentLink2URL: https://jlcpcb.com/partdetail/C621092
pins: 1, 2
1 alternate drawing of the same symbol

## 181207J0302T4E
designator R?  Resistance: 3000Ω  (hidden comment: *)
Resistor, 3000Ω, ±5%, 750mW, 200V, ±100ppm/℃, -55℃~+155℃, SMD 1812; Manufacturer: Uniroyal; Manufacturer Part Number: 181207J0302T4E; Supplier 1: LCSC; Supplier Part Number 1: C621098; JLCPCB Part Number: C621098; Power Rating: 750mW; Category: Resistors; Package Size: 1812; JLCPCB Basic Part: Yes; Tolerance: ±5%; Voltage Rating: 200V; Temperature Coefficient: ±100ppm/℃; Temperature Rating: -55℃~+155℃; ComponentLink1Description: Datasheet; ComponentLink1URL: https://wmsc.lcsc.com/wmsc/upload/file/pdf/v2/lcsc/2304140030_UNI-ROYAL-Uniroyal-Elec-181207J0302T4E_C621098.pdf; ComponentLink2Description: JLCPCB Part URL; ComponentLink2URL: https://jlcpcb.com/partdetail/C621098
pins: 1, 2
1 alternate drawing of the same symbol

## 181207J0303T4E
designator R?  Resistance: 30kΩ  (hidden comment: *)
Resistor, 30kΩ, ±5%, 750mW, 200V, ±100ppm/℃, -55℃~+155℃, SMD 1812; Manufacturer: Uniroyal; Manufacturer Part Number: 181207J0303T4E; Supplier 1: LCSC; Supplier Part Number 1: C621093; JLCPCB Part Number: C621093; Power Rating: 750mW; Category: Resistors; Package Size: 1812; JLCPCB Basic Part: Yes; Tolerance: ±5%; Voltage Rating: 200V; Temperature Coefficient: ±100ppm/℃; Temperature Rating: -55℃~+155℃; ComponentLink1Description: Datasheet; ComponentLink1URL: https://wmsc.lcsc.com/wmsc/upload/file/pdf/v2/lcsc/2206011100_UNI-ROYAL-Uniroyal-Elec-181207J0303T4E_C621093.pdf; ComponentLink2Description: JLCPCB Part URL; ComponentLink2URL: https://jlcpcb.com/partdetail/C621093
pins: 1, 2
1 alternate drawing of the same symbol

## 181207J0305T4E
designator R?  Resistance: 3MΩ  (hidden comment: *)
Resistor, 3MΩ, ±5%, 750mW, 200V, ±100ppm/℃, -55℃~+155℃, SMD 1812; Manufacturer: Uniroyal; Manufacturer Part Number: 181207J0305T4E; Supplier 1: LCSC; Supplier Part Number 1: C422005; JLCPCB Part Number: C422005; Power Rating: 750mW; Category: Resistors; Package Size: 1812; JLCPCB Basic Part: Yes; Tolerance: ±5%; Voltage Rating: 200V; Temperature Coefficient: ±100ppm/℃; Temperature Rating: -55℃~+155℃; ComponentLink1Description: Datasheet; ComponentLink1URL: https://wmsc.lcsc.com/wmsc/upload/file/pdf/v2/lcsc/2205312016_UNI-ROYAL-Uniroyal-Elec-181207J0305T4E_C422005.pdf; ComponentLink2Description: JLCPCB Part URL; ComponentLink2URL: https://jlcpcb.com/partdetail/C422005
pins: 1, 2
1 alternate drawing of the same symbol

## 181207J0330T4E
designator R?  Resistance: 33Ω  (hidden comment: *)
Resistor, 33Ω, ±5%, 750mW, 200V, ±100ppm/℃, -55℃~+155℃, SMD 1812; Manufacturer: Uniroyal; Manufacturer Part Number: 181207J0330T4E; Supplier 1: LCSC; Supplier Part Number 1: C621095; JLCPCB Part Number: C621095; Power Rating: 750mW; Category: Resistors; Package Size: 1812; JLCPCB Basic Part: Yes; Tolerance: ±5%; Voltage Rating: 200V; Temperature Coefficient: ±100ppm/℃; Temperature Rating: -55℃~+155℃; ComponentLink1Description: Datasheet; ComponentLink1URL: https://wmsc.lcsc.com/wmsc/upload/file/pdf/v2/lcsc/2206011100_UNI-ROYAL-Uniroyal-Elec-181207J0330T4E_C621095.pdf; ComponentLink2Description: JLCPCB Part URL; ComponentLink2URL: https://jlcpcb.com/partdetail/C621095
pins: 1, 2
1 alternate drawing of the same symbol

## 181207J0331T4E
designator R?  Resistance: 330Ω  (hidden comment: *)
Resistor, 330Ω, ±5%, 750mW, 200V, ±100ppm/℃, -55℃~+155℃, SMD 1812; Manufacturer: Uniroyal; Manufacturer Part Number: 181207J0331T4E; Supplier 1: LCSC; Supplier Part Number 1: C304031; JLCPCB Part Number: C304031; Power Rating: 750mW; Category: Resistors; Package Size: 1812; JLCPCB Basic Part: Yes; Tolerance: ±5%; Voltage Rating: 200V; Temperature Coefficient: ±100ppm/℃; Temperature Rating: -55℃~+155℃; ComponentLink1Description: Datasheet; ComponentLink1URL: https://wmsc.lcsc.com/wmsc/upload/file/pdf/v2/lcsc/2205311945_UNI-ROYAL-Uniroyal-Elec-181207J0331T4E_C304031.pdf; ComponentLink2Description: JLCPCB Part URL; ComponentLink2URL: https://jlcpcb.com/partdetail/C304031
pins: 1, 2
1 alternate drawing of the same symbol

## 181207J0332T4E
designator R?  Resistance: 3.3kΩ  (hidden comment: *)
Resistor, 3.3kΩ, ±5%, 750mW, 200V, ±100ppm/℃, -55℃~+155℃, SMD 1812; Manufacturer: Uniroyal; Manufacturer Part Number: 181207J0332T4E; Supplier 1: LCSC; Supplier Part Number 1: C621091; JLCPCB Part Number: C621091; Power Rating: 750mW; Category: Resistors; Package Size: 1812; JLCPCB Basic Part: Yes; Tolerance: ±5%; Voltage Rating: 200V; Temperature Coefficient: ±100ppm/℃; Temperature Rating: -55℃~+155℃; ComponentLink1Description: Datasheet; ComponentLink1URL: https://wmsc.lcsc.com/wmsc/upload/file/pdf/v2/lcsc/2206011100_UNI-ROYAL-Uniroyal-Elec-181207J0332T4E_C621091.pdf; ComponentLink2Description: JLCPCB Part URL; ComponentLink2URL: https://jlcpcb.com/partdetail/C621091
pins: 1, 2
1 alternate drawing of the same symbol

## 181207J0334T4E
designator R?  Resistance: 330kΩ  (hidden comment: *)
Resistor, 330kΩ, ±5%, 750mW, 200V, ±100ppm/℃, -55℃~+155℃, SMD 1812; Manufacturer: Uniroyal; Manufacturer Part Number: 181207J0334T4E; Supplier 1: LCSC; Supplier Part Number 1: C422002; JLCPCB Part Number: C422002; Power Rating: 750mW; Category: Resistors; Package Size: 1812; JLCPCB Basic Part: Yes; Tolerance: ±5%; Voltage Rating: 200V; Temperature Coefficient: ±100ppm/℃; Temperature Rating: -55℃~+155℃; ComponentLink1Description: Datasheet; ComponentLink1URL: https://wmsc.lcsc.com/wmsc/upload/file/pdf/v2/lcsc/2205312016_UNI-ROYAL-Uniroyal-Elec-181207J0334T4E_C422002.pdf; ComponentLink2Description: JLCPCB Part URL; ComponentLink2URL: https://jlcpcb.com/partdetail/C422002
pins: 1, 2
1 alternate drawing of the same symbol

## 181207J0362T4E
designator R?  Resistance: 3.6kΩ  (hidden comment: *)
Resistor, 3.6kΩ, ±5%, 750mW, 200V, ±100ppm/℃, -55℃~+155℃, SMD 1812; Manufacturer: Uniroyal; Manufacturer Part Number: 181207J0362T4E; Supplier 1: LCSC; Supplier Part Number 1: C421998; JLCPCB Part Number: C421998; Power Rating: 750mW; Category: Resistors; Package Size: 1812; JLCPCB Basic Part: Yes; Tolerance: ±5%; Voltage Rating: 200V; Temperature Coefficient: ±100ppm/℃; Temperature Rating: -55℃~+155℃; ComponentLink1Description: Datasheet; ComponentLink1URL: https://wmsc.lcsc.com/wmsc/upload/file/pdf/v2/lcsc/2205312016_UNI-ROYAL-Uniroyal-Elec-181207J0362T4E_C421998.pdf; ComponentLink2Description: JLCPCB Part URL; ComponentLink2URL: https://jlcpcb.com/partdetail/C421998
pins: 1, 2
1 alternate drawing of the same symbol

## 181207J0363T4E
designator R?  Resistance: 36kΩ  (hidden comment: *)
Resistor, 36kΩ, ±5%, 750mW, 200V, ±100ppm/℃, -55℃~+155℃, SMD 1812; Manufacturer: Uniroyal; Manufacturer Part Number: 181207J0363T4E; Supplier 1: LCSC; Supplier Part Number 1: C421997; JLCPCB Part Number: C421997; Power Rating: 750mW; Category: Resistors; Package Size: 1812; JLCPCB Basic Part: Yes; Tolerance: ±5%; Voltage Rating: 200V; Temperature Coefficient: ±100ppm/℃; Temperature Rating: -55℃~+155℃; ComponentLink1Description: Datasheet; ComponentLink1URL: https://wmsc.lcsc.com/wmsc/upload/file/pdf/v2/lcsc/2205312016_UNI-ROYAL-Uniroyal-Elec-181207J0363T4E_C421997.pdf; ComponentLink2Description: JLCPCB Part URL; ComponentLink2URL: https://jlcpcb.com/partdetail/C421997
pins: 1, 2
1 alternate drawing of the same symbol

## 181207J0390T4E
designator R?  Resistance: 39Ω  (hidden comment: *)
Resistor, 39Ω, ±5%, 750mW, 200V, ±100ppm/℃, -55℃~+155℃, SMD 1812; Manufacturer: Uniroyal; Manufacturer Part Number: 181207J0390T4E; Supplier 1: LCSC; Supplier Part Number 1: C621097; JLCPCB Part Number: C621097; Power Rating: 750mW; Category: Resistors; Package Size: 1812; JLCPCB Basic Part: Yes; Tolerance: ±5%; Voltage Rating: 200V; Temperature Coefficient: ±100ppm/℃; Temperature Rating: -55℃~+155℃; ComponentLink1Description: Datasheet; ComponentLink1URL: https://wmsc.lcsc.com/wmsc/upload/file/pdf/v2/lcsc/2206011100_UNI-ROYAL-Uniroyal-Elec-181207J0390T4E_C621097.pdf; ComponentLink2Description: JLCPCB Part URL; ComponentLink2URL: https://jlcpcb.com/partdetail/C621097
pins: 1, 2
1 alternate drawing of the same symbol

## 181207J0391T4E
designator R?  Resistance: 390Ω  (hidden comment: *)
Resistor, 390Ω, ±5%, 750mW, 200V, ±100ppm/℃, -55℃~+155℃, SMD 1812; Manufacturer: Uniroyal; Manufacturer Part Number: 181207J0391T4E; Supplier 1: LCSC; Supplier Part Number 1: C56727; JLCPCB Part Number: C56727; Power Rating: 750mW; Category: Resistors; Package Size: 1812; JLCPCB Basic Part: Yes; Tolerance: ±5%; Voltage Rating: 200V; Temperature Coefficient: ±100ppm/℃; Temperature Rating: -55℃~+155℃; ComponentLink1Description: Datasheet; ComponentLink1URL: https://wmsc.lcsc.com/wmsc/upload/file/pdf/v2/lcsc/2205312345_UNI-ROYAL-Uniroyal-Elec-181207J0391T4E_C56727.pdf; ComponentLink2Description: JLCPCB Part URL; ComponentLink2URL: https://jlcpcb.com/partdetail/C56727
pins: 1, 2
1 alternate drawing of the same symbol